# Altium footprint library Buck-boost v3.1.PcbLib: 31 footprints (part 2 of 2)
Each footprint in its own frame and in the unit in brackets; x right, y up, seen from the top. Pads: shape width x height; smd on the part's side, far side on the other; paste and mask are expansions set on the pad; w line width, h text height; cw(c..) or ccw(c..) is an arc to the next point about the centre after c.
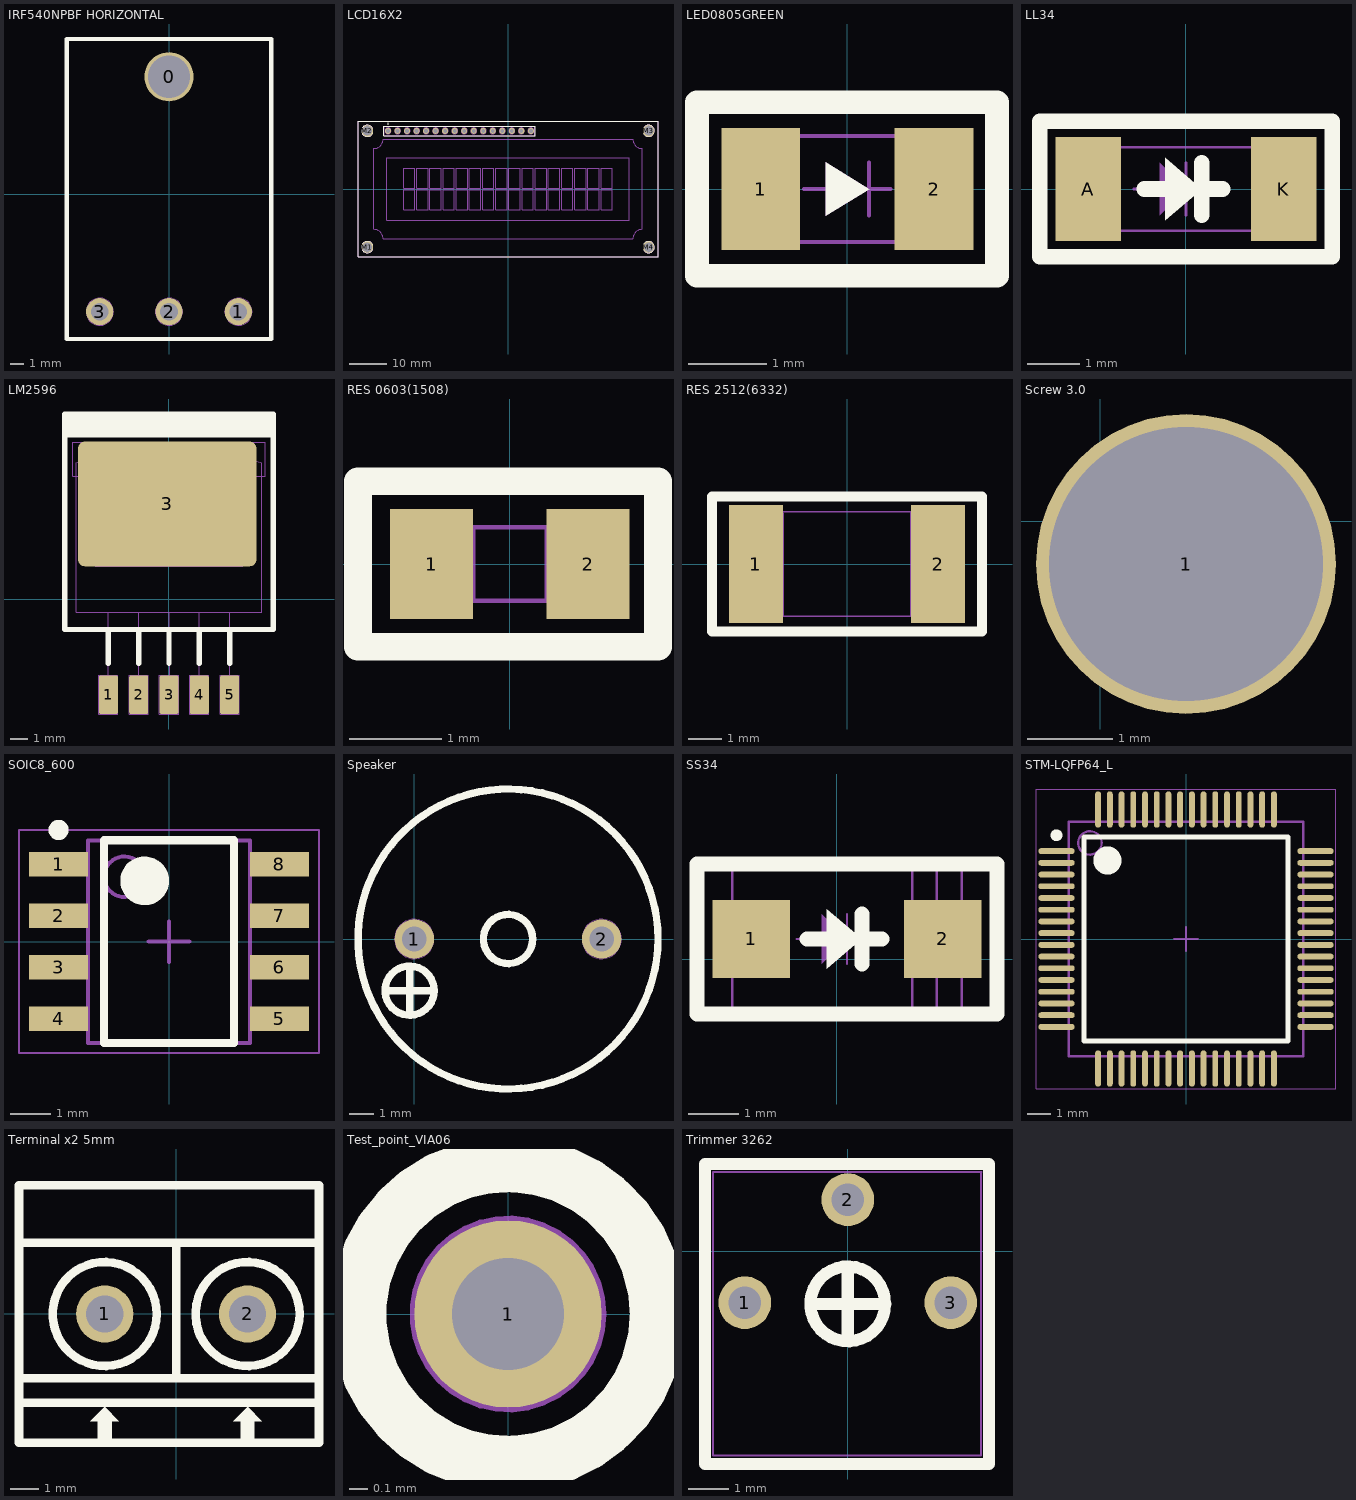
[diagram p1: the footprints below, top view; thin cyan lines are the x and y axes]

## IRF540NPBF HORIZONTAL [mm]
height 12
pads (4):
  round 3.6 hole 3.1 mask+0.1: 0(0,8.615)
  round 2 hole 1.3: 1(5.08,-8.615) 2(0,-8.615) 3(-5.08,-8.615)
Top Overlay:
  lines w0.3: -7.5,-10.615 -7.5,11.385 7.5,11.385 7.5,-10.615 -7.5,-10.615
Mechanical 1:
  circle w0.05: c0,-8.615 r1
  circle w0.05: c-5.08,-8.615 r1
  circle w0.05: c5.1,-8.615 r1
  text "G" at 4.7,-9.215 h1.2
  text "D" at -0.3,-9.215 h1.2
  text "S" at -5.5,-9.215 h1.2
3D body: height 4.55, standoff -3.58, extent -4.9,-8.906 5,11.306

## LCD16X2 [mm] "ADM1602K-NSW-FBS/3.3V"
height 13.5
pads (20):
  round 1.6 hole 1 mask+0.1: 1(-32,15.5) 2(-29.46,15.5) 3(-26.92,15.5) 4(-24.38,15.5) 5(-21.84,15.5) 6(-19.3,15.5) 7(-16.76,15.5) 8(-14.22,15.5) 9(-11.68,15.5) 10(-9.14,15.5) 11(-6.6,15.5) 12(-4.06,15.5) 13(-1.52,15.5) 14(1.02,15.5) 15(3.56,15.5) 16(6.1,15.5)
  round 3 hole 2.5 mask+0.1: M1(-37.5,-15.5) M2(-37.5,15.5) M3(37.5,15.5) M4(37.5,-15.5)
Top Overlay:
  circle w0.3: c-37.5,-15.5 r1.5
  circle w0.3: c37.5,-15.5 r1.5
  circle w0.3: c37.5,15.5 r1.5
  circle w0.3: c-37.5,15.5 r1.5
  circle w0.3: c-32,17.4 r0.1
  lines w0.3: -40,-18 -40,18 40,18 40,-18 -40,-18 ; -33.1,14.2 7.2,14.2 7.2,16.8 -33.1,16.8 -33.1,14.2
Mechanical 1:
  drawing of 233 lines, arcs and shapes, not listed
  text "1" at -33.6,15 h0.8
  text "16" at 7.5,15 h0.8
3D body: height 13.4, standoff -2.4, extent 34.5,12.5 40.5,18.5
3D body: height 13.4, standoff -2.4, extent 34.5,-18.5 40.5,-12.5
3D body: height 13.4, standoff -2.4, extent -40.5,-18.5 -34.5,-12.5
3D body: height 13.4, standoff -2.4, extent -40.5,12.5 -34.5,18.5
3D body: height 20.02, standoff 6.81, extent -40.15,-18.65 40.35,17.85
3D body: height 8.69, standoff -3.18, extent -33.195,14.263 7.595,16.738

## LED0805GREEN [mm] "598 series"
height 0.7
pads (2):
  rect 1x1.55 smd mask+0.1: 1(-1.1,0) 2(1.1,0)
Top Overlay:
  region: -0.275,0.338 -0.275,-0.337 0.275,0
  lines w0.3: -1.91,-1.1 -1.91,1.1 1.9,1.1 1.9,-1.1 -1.91,-1.1
Mechanical 1:
  region: -0.275,0.338 -0.275,-0.337 0.275,0
  lines w0.05: -0.55,0 -0.275,0 ; 0.275,-0.337 0.275,0.338 ; 0.275,0 0.55,0 ; -1.1,-0.675 1.1,-0.675 1.1,0.675 -1.1,0.675 -1.1,-0.675
3D body: height 1.1, standoff 0, extent -1.01,-0.625 1.01,0.625

## LL34 [mm]
pads (2):
  rect 1.25x2 smd mask+0.1: A(-1.875,0) K(1.875,0)
Top Overlay:
  region: -0.4,0.6 -0.4,-0.6 0.3,0
  lines w0.3: -0.8,0 -0.4,0 ; 0.3,-0.5 0.3,0.5 ; 0.4,0 0.7,0 ; -2.8,-1.3 2.8,-1.3 2.8,1.3 -2.8,1.3 -2.8,-1.3
Mechanical 1:
  region: -0.5,0.5 -0.5,-0.5 0,0
  lines w0.05: -1,0 -0.5,0 ; 0,-0.5 0,0.5 ; 0,0 0.5,0 ; 1.3,-0.8 1.3,0.8 ; 1.6,-0.8 1.6,0.8 ; -1.85,-0.8 -1.85,0.8 1.85,0.8 1.85,-0.8 -1.85,-0.8
3D body: height 1.6, standoff 0, extent -1.82,-0.8 1.88,0.8

## LM2596 [mm] "TO-263 -5  10.16x13.94, Pitch 1.7mm"
height 4.8
pads (6):
  rrect20% 1.07x2.16 smd paste+0 mask+0.1: 1(-3.4,-5.35) 2(-1.7,-5.35) 3(0,-5.35) 4(1.7,-5.35) 5(3.4,-5.35)
  rrect10% 10x6.99 smd paste+0 mask+0.1: 3(-0.1,5.35)
Top Overlay:
  rectangle: -5.842,9.083 5.842,10.398
  lines w0.3: -3.4,-3.6 -3.4,-1.69 ; -1.7,-3.6 -1.7,-1.69 ; 0,-3.6 0,-1.69 ; 1.7,-3.6 1.7,-1.69 ; 3.4,-3.6 3.4,-1.69 ; -5.842,-1.69 -5.842,10.398 5.842,10.398 5.842,-1.69 -5.842,-1.69
Mechanical 1:
  lines w0.05: -3.4,-4.27 -3.4,-0.727 ; -1.7,-4.27 -1.7,-0.727 ; 0,-4.25 0,-0.727 ; 1.7,-4.27 1.7,-0.727 ; 3.4,-4.25 3.4,-0.727 ; -5.4,6.9 -5.4,8.82 5.4,8.82 5.4,6.9 5.205,6.9 4.15,6.9 4.15,1.85 -4.15,1.85 -4.15,6.9 -5.2,6.9 -5.4,6.9 ; -5.205,-0.727 5.205,-0.727 5.205,7.655 3.555,8.163 -3.555,8.163 -5.205,7.655 -5.205,6.513 -5.205,-0.727 ; -3.935,-6.43 -2.865,-6.43 -2.865,-4.27 -3.935,-4.27 -3.935,-6.43 ; -2.235,-6.43 -2.235,-4.27 -1.165,-4.27 -1.165,-6.43 -2.235,-6.43 ; -0.535,-6.43 -0.535,-4.27 0.535,-4.27 0.535,-6.43 -0.535,-6.43 ; 1.165,-6.43 1.165,-4.27 2.235,-4.27 2.235,-6.43 1.165,-6.43 ; 2.865,-6.43 2.865,-4.27 3.935,-4.27 3.935,-6.43 2.865,-6.43
3D body: height 4.56, standoff 0, extent -5.14,-5.707 5.02,8.308

## RES 0603(1508) [mm] "Resistor 0603"
height 0.8
pads (2):
  rect 0.9x1.2 smd mask+0.1: 1(-0.85,0) 2(0.85,0)
Top Overlay:
  lines w0.3: -1.65,-0.9 -1.65,0.9 1.61,0.9 1.61,-0.9 -1.65,-0.9
Mechanical 1:
  lines w0.05: -0.4,-0.4 -0.4,0.4 ; 0.4,-0.4 0.4,0.4 ; -0.8,-0.4 -0.8,0.4 0.8,0.4 0.8,-0.4 -0.8,-0.4
3D body: height 0.56, standoff 0, extent -0.85,-0.4 0.85,0.4

## RES 2512(6332) [mm]
height 0.6
pads (2):
  rect 1.6x3.5 smd mask+0.1: 1(-2.7,0) 2(2.7,0)
Top Overlay:
  lines w0.3: -4,-2 -4,2 4,2 4,-2 -4,-2
Mechanical 1:
  lines w0.05: -1.9,-1.55 -1.9,1.5 ; 1.9,-1.55 1.9,1.55 ; -3.15,-1.55 3.15,-1.55 3.15,1.55 -3.15,1.55 -3.15,-1.55
3D body: height 0.82, standoff 0.22, extent -3.031,-1.575 3.269,1.575

## Screw 3.0 [mm] "Hole 3.0mm"
height 10
pads (1):
  round 3.5 hole 3.2: 1(1,-0.5)

## SOIC8_600 [mm] "SOIC, 8-Leads, Body 4.90x3.90mm, Pitch 1.27mm, IPC Medium Density"
height 1.75
pads (8):
  rect 1.45x0.6 smd: 1(-2.725,1.905) 2(-2.725,0.635) 3(-2.725,-0.635) 4(-2.725,-1.905) 5(2.725,-1.905) 6(2.725,-0.635) 7(2.725,0.635) 8(2.725,1.905)
Top Overlay:
  circle w0.25: c-2.725,2.755 r0.125
  circle w0.6: c-0.6,1.5 r0.3
  lines w0.2: -1.6,-2.5 -1.6,2.5 1.6,2.5 1.6,-2.5 -1.6,-2.5
Mechanical 13:
  circle w0.1: c-1.1,1.6 r0.5
  lines w0.1: -2,-2.5 -2,2.5 2,2.5 2,-2.5 -2,-2.5
Mechanical 15:
  lines w0.05: -3.7,-2.75 -3.7,2.75 3.7,2.75 3.7,-2.75 -3.7,-2.75
  lines w0.1: -0.5,0 0.5,0 ; 0,-0.5 0,0.5
3D body: height 1.75, standoff 0, extent -3,-2.45 3,2.45

## Speaker [mm] "TMB12A05"
height 9.7
pads (2):
  round 1.6 hole 1 mask+0.1: 1(0,0) 2(7.62,0)
Top Overlay:
  circle w0.3: c3.81,0 r1
  circle w0.3: c3.81,0 r6.1
  circle w0.3: c-0.19,-2.1 r1
  lines w0.3: -1.19,-2.1 0.81,-2.1 ; -0.19,-3.1 -0.19,-1.1
Mechanical 1:
  circle w0.05: c-0.19,-2.1 r1
  circle w0.05: c3.81,0 r6.1
  circle w0.05: c3.81,0 r1
  circle w0.05: c7.62,0 r0.8
  circle w0.05: c0,0 r0.8
  lines w0.05: -1.19,-2.1 0.81,-2.1 ; -0.19,-3.1 -0.19,-1.1
  text "2" at 7.32,-0.6 h1.2
  text "1" at -0.2,-0.5 h1.2
3D body: height 7.35, standoff -3.1, extent -3,-7 11,7

## SS34 [mm]
height 2.06
pads (2):
  rect 1.555x1.57 smd mask+0.1: 1(-1.715,0.4) 2(2.115,0.4)
Top Overlay:
  region: -0.2,1 -0.2,-0.2 0.5,0.4
  lines w0.3: -0.6,0.4 -0.2,0.4 ; 0.5,-0.1 0.5,0.9 ; 0.6,0.4 0.9,0.4 ; -2.8,-1.1 3.2,-1.1 3.2,1.9 -2.8,1.9 -2.8,-1.1
Mechanical 1:
  region: -0.3,0.9 -0.3,-0.1 0.2,0.4
  lines w0.05: -0.8,0.4 -0.3,0.4 ; 0.2,-0.1 0.2,0.9 ; 0.2,0.4 0.7,0.4 ; 1.5,-1.048 1.5,1.848 ; 2,-1.048 2,1.848 ; -2.098,-1.048 2.499,-1.048 2.499,1.848 -2.098,1.848 -2.098,-1.048
3D body: height 2.15, standoff -0.05, extent -2.3,-0.95 2.7,1.75

## STM-LQFP64_L [mm] "Thin QFP, 64-Leads, Body 10x10mm, Pitch 0.5mm, IPC High Density"
height 1.6
pads (64):
  oval 1.55x0.25 smd: 1(-5.525,3.75) 2(-5.525,3.25) 3(-5.525,2.75) 4(-5.525,2.25) 5(-5.525,1.75) 6(-5.525,1.25) 7(-5.525,0.75) 8(-5.525,0.25) 9(-5.525,-0.25) 10(-5.525,-0.75) 11(-5.525,-1.25) 12(-5.525,-1.75) 13(-5.525,-2.25) 14(-5.525,-2.75) 15(-5.525,-3.25) 16(-5.525,-3.75) 33(5.525,-3.75) 34(5.525,-3.25) 35(5.525,-2.75) 36(5.525,-2.25) 37(5.525,-1.75) 38(5.525,-1.25) 39(5.525,-0.75) 40(5.525,-0.25) 41(5.525,0.25) 42(5.525,0.75) 43(5.525,1.25) 44(5.525,1.75) 45(5.525,2.25) 46(5.525,2.75) 47(5.525,3.25) 48(5.525,3.75)
  oval 0.25x1.55 smd: 17(-3.75,-5.525) 18(-3.25,-5.525) 19(-2.75,-5.525) 20(-2.25,-5.525) 21(-1.75,-5.525) 22(-1.25,-5.525) 23(-0.75,-5.525) 24(-0.25,-5.525) 25(0.25,-5.525) 26(0.75,-5.525) 27(1.25,-5.525) 28(1.75,-5.525) 29(2.25,-5.525) 30(2.75,-5.525) 31(3.25,-5.525) 32(3.75,-5.525) 49(3.75,5.525) 50(3.25,5.525) 51(2.75,5.525) 52(2.25,5.525) 53(1.75,5.525) 54(1.25,5.525) 55(0.75,5.525) 56(0.25,5.525) 57(-0.25,5.525) 58(-0.75,5.525) 59(-1.25,5.525) 60(-1.75,5.525) 61(-2.25,5.525) 62(-2.75,5.525) 63(-3.25,5.525) 64(-3.75,5.525)
Top Overlay:
  circle w0.6: c-3.35,3.35 r0.3
  circle w0.25: c-5.525,4.425 r0.125
  lines w0.2: -4.35,-4.35 4.35,-4.35 4.35,4.35 -4.35,4.35 -4.35,-4.35
Mechanical 13:
  circle w0.1: c-4.1,4.1 r0.5
  lines w0.1: -5,-5 5,-5 5,5 -5,5 -5,-5
Mechanical 15:
  lines w0.05: -6.4,-6.4 6.4,-6.4 6.4,6.4 -6.4,6.4 -6.4,-6.4
  lines w0.1: -0.5,0 0.5,0 ; 0,-0.5 0,0.5
3D body: height 1.6, standoff 0.05, extent -5,-5 5,5

## Terminal x2 5mm [mm] "KF301 - 3P"
height 10
pads (2):
  round 2 hole 1.3 mask+0.1: 1(-2.5,0) 2(2.5,0)
Top Overlay:
  circle w0.3: c-2.5,0 r1.82
  circle w0.3: c2.5,0 r1.82
  rectangle: 2.25,-4.5 2.75,-3.75
  rectangle: -2.75,-4.5 -2.25,-3.75
  region: 2,-3.75 2.5,-3.25 3,-3.75
  region: -3,-3.75 -2.5,-3.25 -2,-3.75
  lines w0.3: -5.5,-2.25 5,-2.25 ; -5.5,2.5 5,2.5 ; 0,-2.25 0,2.5 ; -5.5,-3.1 5,-3.1 ; -5.5,-3.1 -5.5,4.5 5,4.5 5,-3.1 ; -5.5,-3.1 -5.5,-4.5 5,-4.5 5,-3.1
Mechanical 1:
  circle w0.05: c-2.5,0 r1.82
  circle w0.05: c2.5,0 r1.82
  lines w0.05: -5.5,-2.25 5,-2.25 ; -5.5,2.5 5,2.5 ; 0,-2.25 0,2.5 ; -5.5,-3.1 -5.5,4.5 5,4.5 5,-3.1 -5.5,-3.1
  text "1" at -2.691,-0.572 h1.2
  text "2" at 2.199,-0.572 h1.2
3D body: height 10, standoff -3, extent -5.6,-3.038 5,4.562

## Test_point_VIA06 [mm] "Test point do not mount"
height 0.9
pads (1):
  round 1 hole 0.6: 1(0,0)
Top Overlay:
  circle w0.3: c0,0 r0.8
Mechanical 1:
  circle w0.05: c0,0 r0.5

## Trimmer 3262 [mm] "3262 trimmer"
height 7.88
pads (3):
  round 1.3 hole 0.8 mask+0.1: 1(-2.54,-1.27) 2(0,1.27) 3(2.54,-1.27)
Top Overlay:
  circle w0.3: c0,-1.3 r0.922
  lines w0.3: -0.9,-1.3 0.922,-1.3 ; 0,-2.2 0,-0.4 ; -3.52,-5.25 3.48,-5.25 3.48,2.15 -3.52,2.15 -3.52,-5.25
Mechanical 1:
  circle w0.05: c0,-1.305 r1
  lines w0.05: -3.32,1.95 -3.32,-5.04 3.28,-5.04 3.28,1.95 ; -3.3,1.95 3.3,1.95 ; -1,-1.305 1,-1.305 ; 0,-2.305 0,-0.305
3D body: height 4.7, standoff -5.47, extent -3.29,-5.134 3.31,1.92